# Altium integrated library Nsiway Power Amplifiers.IntLib: 1 symbol
Pins are listed as number, name and electrical type; pins without a type are passive.

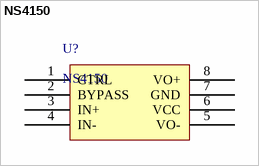
[diagram p0: symbol NS4150]

## NS4150
designator U?
Low EMI, Filterless, 3W MONO Class D Audio Amplifier; Manufacture: Nsiway
footprint SOIC127P600X175-8L (SOIC, 8-Leads, Body 5.1x4.1mm (max), Pitch 1.27mm, IPC High Density)
footprint SOIC127P600X175-8M (SOIC, 8-Leads, Body 5.1x4.1mm (max), Pitch 1.27mm, IPC Low Density)
footprint SOIC127P600X175-8N (SOIC, 8-Leads, Body 5.1x4.1mm (max), Pitch 1.27mm, IPC Medium Density)
footprint TSOP65P490X110-8L (TSOP, 8-Leads, Body 3.1x3.1mm (max), Pitch 0.65mm, IPC High Density)
footprint TSOP65P490X110-8M (TSOP, 8-Leads, Body 3.1x3.1mm (max), Pitch 0.65mm, IPC Low Density)
footprint TSOP65P490X110-8N (TSOP, 8-Leads, Body 3.1x3.1mm (max), Pitch 0.65mm, IPC Medium Density)
pins: 1 CTRL, 2 BYPASS, 3 IN+, 4 IN-, 5 VO-, 6 VCC, 7 GND, 8 VO+